# Altium schematic symbol library MGAH06033R3M-10.SchLib: 1 symbol
Pins are listed as number, name and electrical type; pins without a type are passive.

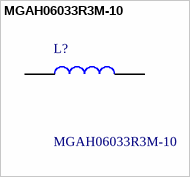
[diagram p0: symbol MGAH06033R3M-10]

## MGAH06033R3M-10
designator L?
Power Inductors - SMD 3.3uH 0.03ohm 9.5A; Manufacturer_Name: Laird Performance Materials; Geometry.Height: 3.1mm; Manufacturer_Part_Number: MGAH06033R3M-10; Mouser Part Number: 739-MGAH06033R3M-10; Mouser Price/Stock: https://www.mouser.co.uk/ProductDetail/Laird-Performance-Materials/MGAH06033R3M-10?qs=By6Nw2ByBD2mXVegrURTAA%3D%3D; Arrow Part Number: *; Arrow Price/Stock: *; Datasheet Link: https://www.mouser.fr/datasheet/2/987/MGAH0603_2520Series-3043308.pdf
footprint INDPM7066X310N
pins: 1, 2